# Altium schematic symbol library CRCW12063K30FKEAC.SchLib: 1 symbol
Pins are listed as number, name and electrical type; pins without a type are passive.

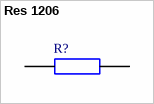
[diagram p0: symbol Res 1206]

## Res 1206
designator R?
Thick Film Resistors - SMD; Geometry.Height: 0.6mm
footprint RESC3216X60N
pins: 1, 2